# Altium footprint library Molex Footprints.PcbLib: 498 footprints (part 6 of 32)
Each footprint in its own frame and in the unit in brackets; x right, y up, seen from the top. Pads: shape width x height; smd on the part's side, far side on the other; paste and mask are expansions set on the pad; w line width, h text height; cw(c..) or ccw(c..) is an arc to the next point about the centre after c.
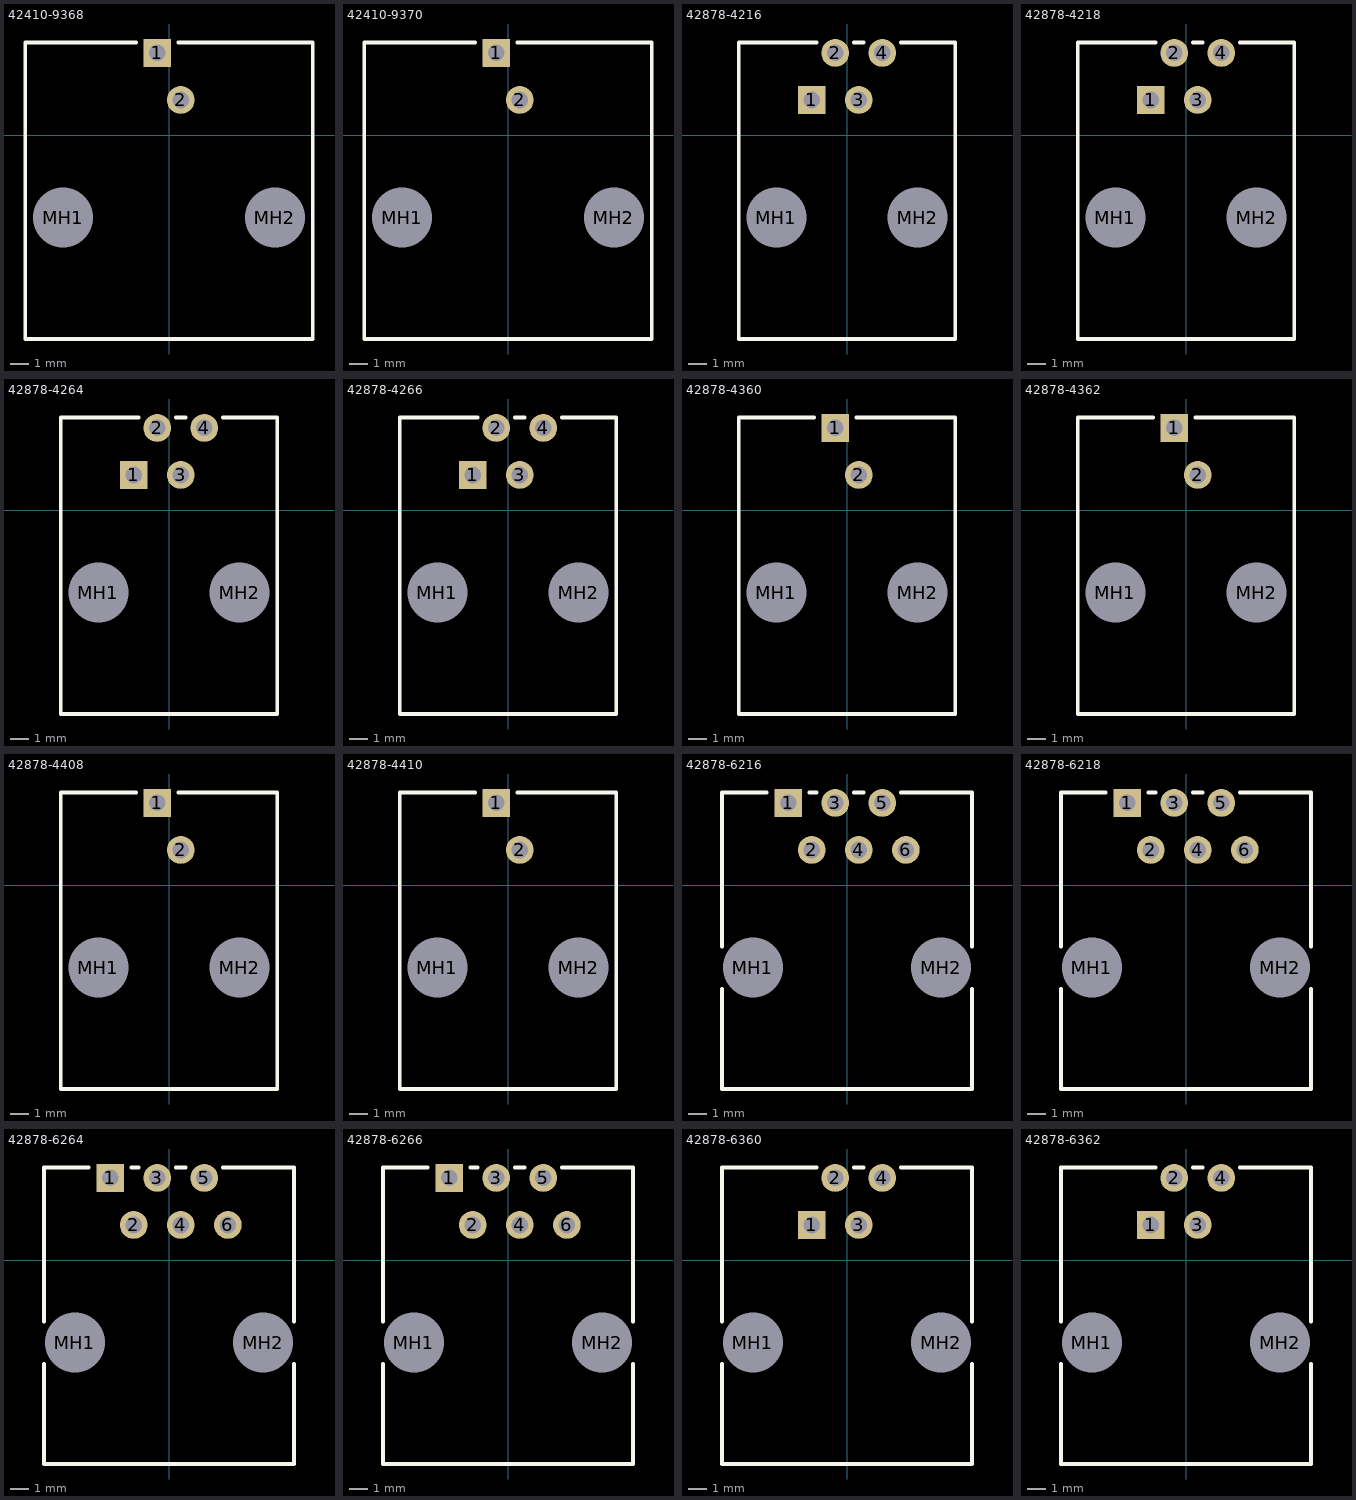
[diagram p5: the footprints below, top view; thin cyan lines are the x and y axes]

## 42410-9368 [mm] "Connector; PCB Jack, Thru-Hole; 1-Port, 8 Positions, 2 Loaded; Unshielded without Lightpipes; Vertical"
height 16.38
pads (4):
  rect 1.5x1.5 hole 0.9: 1(-0.635,4.445)
  round 1.5 hole 0.9: 2(0.635,1.905)
  round 2.95 hole 3.25 unplated: MH1(-5.715,-4.445) MH2(5.715,-4.445)
Top Overlay:
  lines w0.2: -1.785,5.005 -7.75,5.005 -7.75,-10.995 7.75,-10.995 7.75,5.005 0.515,5.005

## 42410-9370 [mm] "Connector; PCB Jack, Thru-Hole; 1-Port, 8 Positions, 2 Loaded; Unshielded without Lightpipes; Vertical"
height 16.38
pads (4):
  rect 1.5x1.5 hole 0.9: 1(-0.635,4.445)
  round 1.5 hole 0.9: 2(0.635,1.905)
  round 2.95 hole 3.25 unplated: MH1(-5.715,-4.445) MH2(5.715,-4.445)
Top Overlay:
  lines w0.2: -1.785,5.005 -7.75,5.005 -7.75,-10.995 7.75,-10.995 7.75,5.005 0.515,5.005

## 42878-4216 [mm] "Connector; PCB Jack, Thru-Hole; 1-Port, 4 Positions, 4 Loaded; Unshielded without Lightpipes; Vertical"
height 12.7
pads (6):
  rect 1.5x1.5 hole 0.9: 1(-1.905,1.905)
  round 1.5 hole 0.9: 2(-0.635,4.445) 3(0.635,1.905) 4(1.905,4.445)
  round 2.95 hole 3.25 unplated: MH1(-3.81,-4.445) MH2(3.81,-4.445)
Top Overlay:
  lines w0.2: -1.639,5.005 -5.835,5.005 -5.835,-10.995 5.835,-10.995 5.835,5.005 2.909,5.005 ; 0.369,5.005 0.901,5.005

## 42878-4218 [mm] "Connector; PCB Jack, Thru-Hole; 1-Port, 4 Positions, 4 Loaded; Unshielded without Lightpipes; Vertical"
height 12.7
pads (6):
  rect 1.5x1.5 hole 0.9: 1(-1.905,1.905)
  round 1.5 hole 0.9: 2(-0.635,4.445) 3(0.635,1.905) 4(1.905,4.445)
  round 2.95 hole 3.25 unplated: MH1(-3.81,-4.445) MH2(3.81,-4.445)
Top Overlay:
  lines w0.2: -1.639,5.005 -5.835,5.005 -5.835,-10.995 5.835,-10.995 5.835,5.005 2.909,5.005 ; 0.369,5.005 0.901,5.005

## 42878-4264 [mm] "Connector; PCB Jack, Thru-Hole; 1-Port, 4 Positions, 4 Loaded; Unshielded without Lightpipes; Vertical"
height 12.7
pads (6):
  rect 1.5x1.5 hole 0.9: 1(-1.905,1.905)
  round 1.5 hole 0.9: 2(-0.635,4.445) 3(0.635,1.905) 4(1.905,4.445)
  round 2.95 hole 3.25 unplated: MH1(-3.81,-4.445) MH2(3.81,-4.445)
Top Overlay:
  lines w0.2: -1.639,5.005 -5.835,5.005 -5.835,-10.995 5.835,-10.995 5.835,5.005 2.909,5.005 ; 0.369,5.005 0.901,5.005

## 42878-4266 [mm] "Connector; PCB Jack, Thru-Hole; 1-Port, 4 Positions, 4 Loaded; Unshielded without Lightpipes; Vertical"
height 12.7
pads (6):
  rect 1.5x1.5 hole 0.9: 1(-1.905,1.905)
  round 1.5 hole 0.9: 2(-0.635,4.445) 3(0.635,1.905) 4(1.905,4.445)
  round 2.95 hole 3.25 unplated: MH1(-3.81,-4.445) MH2(3.81,-4.445)
Top Overlay:
  lines w0.2: -1.639,5.005 -5.835,5.005 -5.835,-10.995 5.835,-10.995 5.835,5.005 2.909,5.005 ; 0.369,5.005 0.901,5.005

## 42878-4360 [mm] "Connector; PCB Jack, Thru-Hole; 1-Port, 4 Positions, 2 Loaded; Unshielded without Lightpipes; Vertical"
height 12.7
pads (4):
  rect 1.5x1.5 hole 0.9: 1(-0.635,4.445)
  round 1.5 hole 0.9: 2(0.635,1.905)
  round 2.95 hole 3.25 unplated: MH1(-3.81,-4.445) MH2(3.81,-4.445)
Top Overlay:
  lines w0.2: -1.785,5.005 -5.835,5.005 -5.835,-10.995 5.835,-10.995 5.835,5.005 0.515,5.005

## 42878-4362 [mm] "Connector; PCB Jack, Thru-Hole; 1-Port, 4 Positions, 2 Loaded; Unshielded without Lightpipes; Vertical"
height 12.7
pads (4):
  rect 1.5x1.5 hole 0.9: 1(-0.635,4.445)
  round 1.5 hole 0.9: 2(0.635,1.905)
  round 2.95 hole 3.25 unplated: MH1(-3.81,-4.445) MH2(3.81,-4.445)
Top Overlay:
  lines w0.2: -1.785,5.005 -5.835,5.005 -5.835,-10.995 5.835,-10.995 5.835,5.005 0.515,5.005

## 42878-4408 [mm] "Connector; PCB Jack, Thru-Hole; 1-Port, 4 Positions, 2 Loaded; Unshielded without Lightpipes; Vertical"
height 12.7
pads (4):
  rect 1.5x1.5 hole 0.9: 1(-0.635,4.445)
  round 1.5 hole 0.9: 2(0.635,1.905)
  round 2.95 hole 3.25 unplated: MH1(-3.81,-4.445) MH2(3.81,-4.445)
Top Overlay:
  lines w0.2: -1.785,5.005 -5.835,5.005 -5.835,-10.995 5.835,-10.995 5.835,5.005 0.515,5.005

## 42878-4410 [mm] "Connector; PCB Jack, Thru-Hole; 1-Port, 4 Positions, 2 Loaded; Unshielded without Lightpipes; Vertical"
height 12.7
pads (4):
  rect 1.5x1.5 hole 0.9: 1(-0.635,4.445)
  round 1.5 hole 0.9: 2(0.635,1.905)
  round 2.95 hole 3.25 unplated: MH1(-3.81,-4.445) MH2(3.81,-4.445)
Top Overlay:
  lines w0.2: -1.785,5.005 -5.835,5.005 -5.835,-10.995 5.835,-10.995 5.835,5.005 0.515,5.005

## 42878-6216 [mm] "Connector; PCB Jack, Thru-Hole; 1-Port, 6 Positions, 6 Loaded; Unshielded without Lightpipes; Vertical"
height 12.7
pads (8):
  rect 1.5x1.5 hole 0.9: 1(-3.175,4.445)
  round 1.5 hole 0.9: 2(-1.905,1.905) 3(-0.635,4.445) 4(0.635,1.905) 5(1.905,4.445) 6(3.175,1.905)
  round 2.95 hole 3.25 unplated: MH1(-5.08,-4.445) MH2(5.08,-4.445)
Top Overlay:
  lines w0.2: -6.75,-5.59 -6.75,-10.995 6.75,-10.995 6.75,-5.59 ; -6.75,-3.3 -6.75,5.005 -4.325,5.005 ; -2.025,5.005 -1.639,5.005 ; 0.369,5.005 0.901,5.005 ; 2.909,5.005 6.75,5.005 6.75,-3.3

## 42878-6218 [mm] "Connector; PCB Jack, Thru-Hole; 1-Port, 6 Positions, 6 Loaded; Unshielded without Lightpipes; Vertical"
height 12.7
pads (8):
  rect 1.5x1.5 hole 0.9: 1(-3.175,4.445)
  round 1.5 hole 0.9: 2(-1.905,1.905) 3(-0.635,4.445) 4(0.635,1.905) 5(1.905,4.445) 6(3.175,1.905)
  round 2.95 hole 3.25 unplated: MH1(-5.08,-4.445) MH2(5.08,-4.445)
Top Overlay:
  lines w0.2: -6.75,-5.59 -6.75,-10.995 6.75,-10.995 6.75,-5.59 ; -6.75,-3.3 -6.75,5.005 -4.325,5.005 ; -2.025,5.005 -1.639,5.005 ; 0.369,5.005 0.901,5.005 ; 2.909,5.005 6.75,5.005 6.75,-3.3

## 42878-6264 [mm] "Connector; PCB Jack, Thru-Hole; 1-Port, 6 Positions, 6 Loaded; Unshielded without Lightpipes; Vertical"
height 12.7
pads (8):
  rect 1.5x1.5 hole 0.9: 1(-3.175,4.445)
  round 1.5 hole 0.9: 2(-1.905,1.905) 3(-0.635,4.445) 4(0.635,1.905) 5(1.905,4.445) 6(3.175,1.905)
  round 2.95 hole 3.25 unplated: MH1(-5.08,-4.445) MH2(5.08,-4.445)
Top Overlay:
  lines w0.2: -6.75,-5.59 -6.75,-10.995 6.75,-10.995 6.75,-5.59 ; -6.75,-3.3 -6.75,5.005 -4.325,5.005 ; -2.025,5.005 -1.639,5.005 ; 0.369,5.005 0.901,5.005 ; 2.909,5.005 6.75,5.005 6.75,-3.3

## 42878-6266 [mm] "Connector; PCB Jack, Thru-Hole; 1-Port, 6 Positions, 6 Loaded; Unshielded without Lightpipes; Vertical"
height 12.7
pads (8):
  rect 1.5x1.5 hole 0.9: 1(-3.175,4.445)
  round 1.5 hole 0.9: 2(-1.905,1.905) 3(-0.635,4.445) 4(0.635,1.905) 5(1.905,4.445) 6(3.175,1.905)
  round 2.95 hole 3.25 unplated: MH1(-5.08,-4.445) MH2(5.08,-4.445)
Top Overlay:
  lines w0.2: -6.75,-5.59 -6.75,-10.995 6.75,-10.995 6.75,-5.59 ; -6.75,-3.3 -6.75,5.005 -4.325,5.005 ; -2.025,5.005 -1.639,5.005 ; 0.369,5.005 0.901,5.005 ; 2.909,5.005 6.75,5.005 6.75,-3.3

## 42878-6360 [mm] "Connector; PCB Jack, Thru-Hole; 1-Port, 6 Positions, 4 Loaded; Unshielded without Lightpipes; Vertical"
height 12.7
pads (6):
  rect 1.5x1.5 hole 0.9: 1(-1.905,1.905)
  round 1.5 hole 0.9: 2(-0.635,4.445) 3(0.635,1.905) 4(1.905,4.445)
  round 2.95 hole 3.25 unplated: MH1(-5.08,-4.445) MH2(5.08,-4.445)
Top Overlay:
  lines w0.2: -6.75,-5.59 -6.75,-10.995 6.75,-10.995 6.75,-5.59 ; -6.75,-3.3 -6.75,5.005 -1.639,5.005 ; 0.369,5.005 0.901,5.005 ; 2.909,5.005 6.75,5.005 6.75,-3.3

## 42878-6362 [mm] "Connector; PCB Jack, Thru-Hole; 1-Port, 6 Positions, 4 Loaded; Unshielded without Lightpipes; Vertical"
height 12.7
pads (6):
  rect 1.5x1.5 hole 0.9: 1(-1.905,1.905)
  round 1.5 hole 0.9: 2(-0.635,4.445) 3(0.635,1.905) 4(1.905,4.445)
  round 2.95 hole 3.25 unplated: MH1(-5.08,-4.445) MH2(5.08,-4.445)
Top Overlay:
  lines w0.2: -6.75,-5.59 -6.75,-10.995 6.75,-10.995 6.75,-5.59 ; -6.75,-3.3 -6.75,5.005 -1.639,5.005 ; 0.369,5.005 0.901,5.005 ; 2.909,5.005 6.75,5.005 6.75,-3.3